# EAGLE library part DRV8835 (library HBridge)
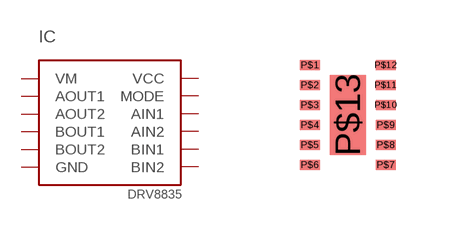
[diagram p0: symbol with the pads of WSON-12; footprint WSON-12]

Designator prefix IC

## DRV8835  [WSON-12]
P$1  VM
P$2  AOUT1
P$3  AOUT2
P$4  BOUT1
P$5  BOUT2
P$6  GND
P$7  BIN2
P$8  BIN1
P$9  AIN2
P$10  AIN1
P$11  MODE
P$12  VCC
P$13  GND

## Footprint WSON-12 (pad centres in mm)
smd 0.5 x 0.25: P$1 -0.95,1.25; P$2 -0.95,0.75; P$3 -0.95,0.25; P$4 -0.95,-0.25; P$5 -0.95,-0.75; P$6 -0.95,-1.25; P$7 0.95,-1.25; P$8 0.95,-0.75; P$9 0.95,-0.25; P$10 0.95,0.25; P$11 0.95,0.75; P$12 0.95,1.25
smd 0.9 x 2: P$13 0,0